# EAGLE library part 74099-1006 (library EXCISS)
74099-1006 SL Wire-to-Board Header, Surface Mount, Single Row, Vertical, 3.05mm Pocket, Shrouded, 6 Circuits, 0.38µm Gold (Au) Selective Plating Links Datasheet <http://www.molex.com/pdm_docs/sd/740991003_sd.pdf> Product website <http://www.molex.com/molex/products/datasheet.jsp?part=active/0740991006_PCB_HEADERS.xml>
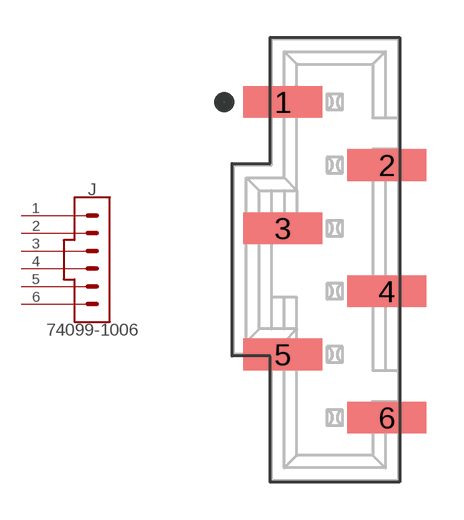
[diagram p25: symbol with the pads of MOLEX_74099-1006; footprint MOLEX_74099-1006]

Designator prefix J

## 74099-1006 (OC_MOUSER: 538-74099-1006)  [MOLEX_74099-1006]
1  1  pas
2  2  pas
3  3  pas
4  4  pas
5  5  pas
6  6  pas

## Footprint MOLEX_74099-1006 (pad centres in mm)
smd 3.175 x 1.27: 1 -2.095,0; 2 2.095,-2.54; 3 -2.095,-5.08; 4 2.095,-7.62; 5 -2.095,-10.16; 6 2.095,-12.7